# Altium schematic symbol library Micius.SchLib: 20 symbols
Pins are listed as number, name and electrical type; pins without a type are passive.

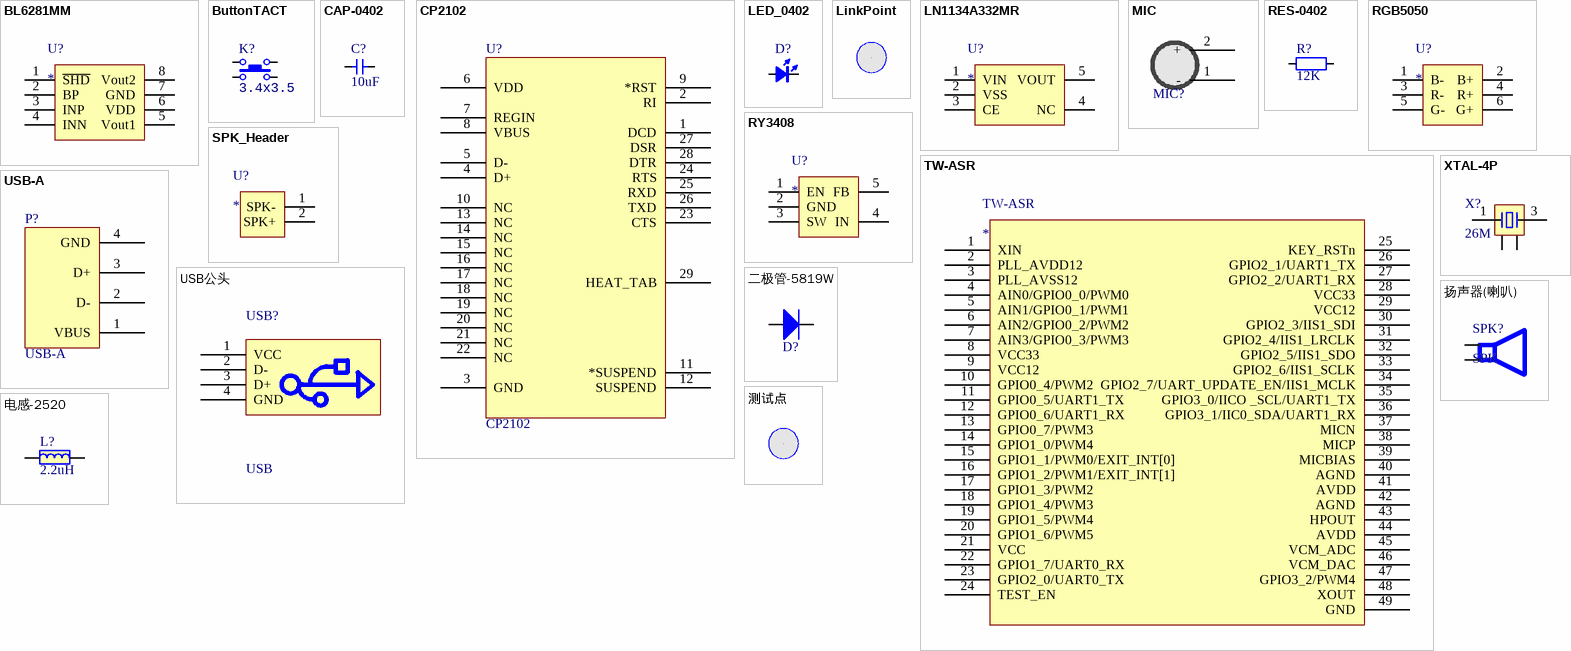
[diagram p0: symbols BL6281MM to 电感-2520]

## BL6281MM
designator U?
footprint MSOP8_M (塑封体长3mm，宽3mm，脚距0.65)
pins: 1 ~{SHD}, 2 BP, 3 INP, 4 INN, 5 Vout1, 6 VDD, 7 GND, 8 Vout2

## ButtonTACT
designator K?, comment value 3.4x3.5  (hidden comment: TACT 4P)
Button; type: TACT 4P
footprint ButtonTACT_3.5*3.55_90
footprint ButtonTACT_3.4*3.5_90
pins: 1, 2, 3, 4

## CAP-0402
designator C?, comment 10uF
Capacitor; Value: 0.1u
footprint CAP_0402
pins: 1, 2

## CP2102
designator U?
USB转TTL; PART DESC: SINGLE-CHIP USB TO UART BRIDGE, QFN28, RoHS.; MFG #1: SILICON LABS; PART NUMBER: CP2102; Value: Value; RefDes: RefDes; Type: DEV
footprint QFN-28
pins: 1 DCD, 2 RI, 3 GND, 4 D+, 5 D-, 6 VDD, 7 REGIN, 8 VBUS, 9 *RST, 10 NC, 11 *SUSPEND, 12 SUSPEND, 13 NC, 14 NC, 15 NC, 16 NC, 17 NC, 18 NC, 19 NC, 20 NC, 21 NC, 22 NC, 23 CTS, 24 RTS, 25 RXD, 26 TXD, 27 DSR, 28 DTR, 29 HEAT_TAB

## LED_0402
designator D?, comment color?  (value not drawn)
LED; Type: 0402; Value: color?
footprint LED_0402_RED
footprint LED_0402_BLUE
footprint LED_0402_ORANGE
footprint LED_0402_YELLOW
footprint LED_0402_GREEN
pins: 1 A, 2 K

## LinkPoint
designator T?  (value not drawn)
footprint TEST_PT_Point
pins: 0

## LN1134A332MR
designator U?
footprint SOT23-5 (SOT23, 3-Leads, Body 3.1x3.0mm (max), Pitch 0.95mm, IPC Medium Density)
pins: 1 VIN, 2 VSS, 3 CE, 4 NC, 5 VOUT

## MIC
designator MIC?  (value not drawn)
footprint MIC
footprint MIC-0416
footprint MIC-SMT
pins: 1 -, 2 +

## RES-0402
designator R?, comment 12K
Resistor; Value: 22R
footprint RES_0402
pins: 1, 2

## RGB5050
designator U?
footprint RGB5050
pins: 1 B-, 2 B+, 3 R-, 4 R+, 5 G-, 6 G+

## RY3408
designator U?
footprint SOT23-5 (SOT23, 3-Leads, Body 3.1x3.0mm (max), Pitch 0.95mm, IPC Medium Density)
pins: 1 EN, 2 GND, 3 SW, 4 IN, 5 FB

## SPK_Header
designator U?
footprint SPK_Header
pins: 1 SPK-, 2 SPK+

## TW-ASR
designator TW-ASR
footprint QFN48 7X7_L (48脚，长x宽x高：7x7x1mm，脚距：0.5mm)
pins: 1 XIN, 2 PLL_AVDD12, 3 PLL_AVSS12, 4 AIN0/GPIO0_0/PWM0, 5 AIN1/GPIO0_1/PWM1, 6 AIN2/GPIO0_2/PWM2, 7 AIN3/GPIO0_3/PWM3, 8 VCC33, 9 VCC12, 10 GPIO0_4/PWM2, 11 GPIO0_5/UART1_TX, 12 GPIO0_6/UART1_RX, 13 GPIO0_7/PWM3, 14 GPIO1_0/PWM4, 15 GPIO1_1/PWM0/EXIT_INT[0], 16 GPIO1_2/PWM1/EXIT_INT[1], 17 GPIO1_3/PWM2, 18 GPIO1_4/PWM3, 19 GPIO1_5/PWM4, 20 GPIO1_6/PWM5, 21 VCC, 22 GPIO1_7/UART0_RX, 23 GPIO2_0/UART0_TX, 24 TEST_EN, 25 KEY_RSTn, 26 GPIO2_1/UART1_TX, 27 GPIO2_2/UART1_RX, 28 VCC33, 29 VCC12, 30 GPIO2_3/IIS1_SDI, 31 GPIO2_4/IIS1_LRCLK, 32 GPIO2_5/IIS1_SDO, 33 GPIO2_6/IIS1_SCLK, 34 GPIO2_7/UART_UPDATE_EN/IIS1_MCLK, 35 GPIO3_0/IICO _SCL/UART1_TX, 36 GPIO3_1/IIC0_SDA/UART1_RX, 37 MICN, 38 MICP, 39 MICBIAS, 40 AGND, 41 AVDD, 42 AGND, 43 HPOUT, 44 AVDD, 45 VCM_ADC, 46 VCM_DAC, 47 GPIO3_2/PWM4, 48 XOUT, 49 GND

## USB-A
designator P?
footprint USB-Short
pins: 1 VBUS, 2 D-, 3 D+, 4 GND

## USB公头
designator USB?, comment USB
footprint USB-plug1
pins: 1 VCC, 2 D-, 3 D+, 4 GND

## XTAL-4P
designator X?, comment 26M
4脚无源晶振; 版权归属: 封装库来自淘宝卖家 ID：黄晶宝石; BOM名称: 4脚无源晶振; 学习资源: https://shop463601444.taobao.com
footprint OSC 1612-4P (1.6*1.2*0.35mm（长宽高）)
footprint OSC 2025-4P (2*2.5*0.55mm(长宽高))
footprint OSC 3225-4P (3.2*2.5*0.7mm(长宽高))
footprint OSC 4025-4P (4*2.5*0.7mm(长宽高))
footprint OSC 5032-4P (5mm*3.2mm*0.8mm(长*宽*高))
footprint OSC 6035-4P (6mm*3.5mm*1mm(长*宽*高))
footprint OSC 7050-4P (7mm*5mm*1.3mm(长*宽*高))
footprint OSC 8045-4P (8mm*4.5mm*1.6mm(长*宽*高))
footprint OSC 8045-4P-C (8mm*4.5mm*1.8mm(长*宽*高))
pins: 1, 2, 3, 4

## 二极管-5819W
designator D?  (value not drawn)
40V
footprint SOD-323
pins: 1 A, 2 K

## 扬声器(喇叭)
designator SPK?, comment SPK
footprint SPK
pins: 1, 2

## 测试点
designator T?  (value not drawn)
footprint TEST_PT
pins: 0

## 电感-2520
designator L?, comment 2.2uH
磁珠
footprint 2520-L
pins: 1, 2